# EAGLE library part TL072 (library EurorackModularParts)
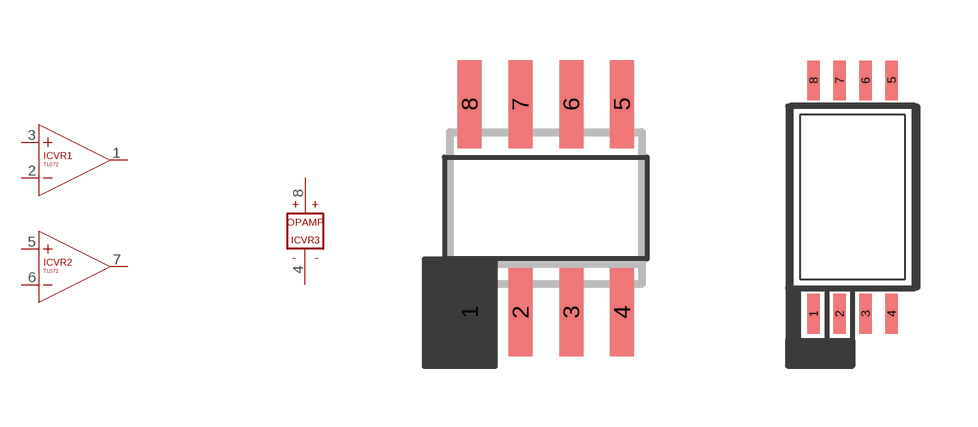
[diagram p4: symbol with the pads of SO08; footprints SO08, TSSOP8]

Designator prefix IC; gates VR1=OPAMP VR2=OPAMP VR3=PWR+-

## TL072  [SO08]
1  VR1:OUT  out
2  VR1:-IN  in
3  VR1:+IN  in
4  VR3:V-  pwr
5  VR2:+IN  in
6  VR2:-IN  in
7  VR2:OUT  out
8  VR3:V+  pwr

## TL072TSSOP8  [TSSOP8]
Pads as for SO08

## Footprint SO08 (pad centres in mm)
Small Outline Package 8 NS Package M08A
smd 0.6 x 2.2: 1 -1.905,-2.6; 2 -0.635,-2.6; 3 0.635,-2.6; 4 1.905,-2.6; 5 1.905,2.6; 6 0.635,2.6; 7 -0.635,2.6; 8 -1.905,2.6

## Footprint TSSOP8 (pad centres in mm)
smd 0.305 x 0.991: 1 -0.975,-2.918; 2 -0.325,-2.918; 3 0.325,-2.918; 4 0.975,-2.918; 5 0.975,2.918; 6 0.325,2.918; 7 -0.325,2.918; 8 -0.975,2.918